# EAGLE library part 2020-03-18-BUCK (library 2020-03-18-Lib)
2020-03-18 Buck Module Output 1: 5.8V3.0A SW Output 2:5.2V 3.0A SW Output 3: 5.0V 1.0A LDO
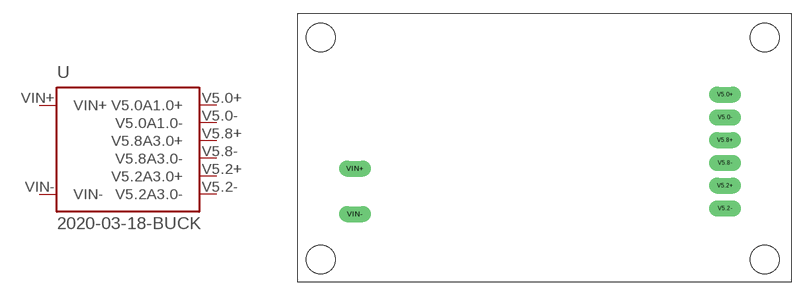
[diagram p6: symbol with the pads of 2020-03-18-BUCK; footprint 2020-03-18-BUCK]

Designator prefix -

## 2020-03-18-BUCK  [2020-03-18-BUCK]
V5.0+  V5.0A1.0+  pwr
V5.0-  V5.0A1.0-  pwr
V5.2+  V5.2A3.0+  pwr
V5.2-  V5.2A3.0-  pwr
V5.8+  V5.8A3.0+  pwr
V5.8-  V5.8A3.0-  pwr
VIN+  VIN+  pwr
VIN-  VIN-  pwr

## Footprint 2020-03-18-BUCK (pad centres in mm)
Module
drill 1.2 long: V5.0+ 47.625,20.955; V5.0- 47.625,18.415; V5.2+ 47.625,10.795; V5.2- 47.625,8.255; V5.8+ 47.625,15.875; V5.8- 47.625,13.335; VIN+ 6.35,12.7; VIN- 6.35,7.62
hole 3.2 at 2.54,2.54
hole 3.2 at 2.54,27.305
hole 3.2 at 52.07,2.54
hole 3.2 at 52.07,27.305